# EAGLE library part 102618-08_S (library con-tyco-modu)
HEADER
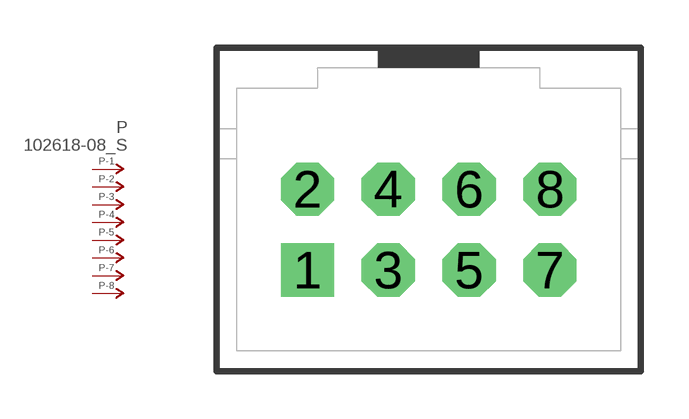
[diagram p40: symbol with the pads of 102618-08; footprint 102618-08]

Designator prefix P; gates -1=P-NV -2=P-N -3=P-N -4=P-N -5=P-N -6=P-N -7=P-N -8=P-N

## 102618-08_S  [102618-08]
1  -1:P  pas
2  -2:P  pas
3  -3:P  pas
4  -4:P  pas
5  -5:P  pas
6  -6:P  pas
7  -7:P  pas
8  -8:P  pas

## Footprint 102618-08 (pad centres in mm)
HEADER
drill 0.914 pad 1.676 square: 1 -3.81,-1.27
drill 0.914 pad 1.676 octagon: 2 -3.81,1.27; 3 -1.27,-1.27; 4 -1.27,1.27; 5 1.27,-1.27; 6 1.27,1.27; 7 3.81,-1.27; 8 3.81,1.27